# EAGLE library part TPS211(4/5) (library PP_PowerIC)
Manufacturer Part #: TPS2114 / TPS2115 Manufacturer: Texas Instruments Description: Power Switch ICs - Power Distribution Autoswitching Power Mux
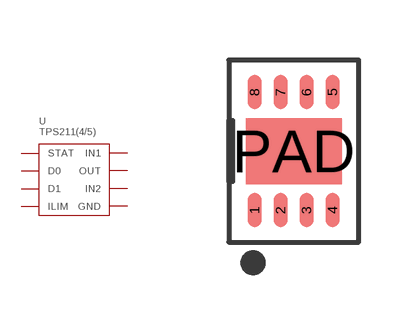
[diagram p3: symbol with the pads of TPS211X_SON-8; footprint TPS211X_SON-8]

Designator prefix U

## TPS211(4/5)ADR  [TPS211X_SON-8]
1  STAT
2  D0
3  D1
4  ILIM
5  GND
6  IN2
7  OUT
8  IN1
PAD  GND

## Footprint TPS211X_SON-8 (pad centres in mm)
smd 0.35 x 0.85: 1 -0.975,-1.475; 2 -0.325,-1.475; 3 0.325,-1.475; 4 0.975,-1.475; 5 0.975,1.475; 6 0.325,1.475; 7 -0.325,1.475; 8 -0.975,1.475
smd 2.4 x 1.65: PAD 0,0